# EAGLE library part B8B-ZR (library jst)
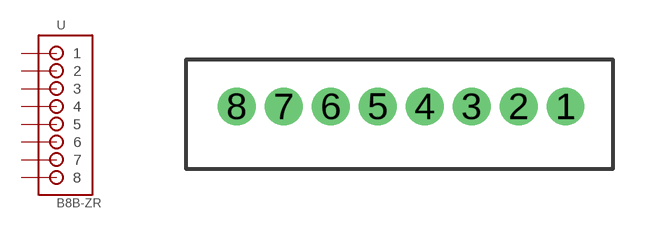
[diagram p2: symbol with the pads of B8B-ZR; footprint B8B-ZR]

Designator prefix -

## B8B-ZR  [B8B-ZR]
1  1
2  2
3  3
4  4
5  5
6  6
7  7
8  8

## Footprint B8B-ZR (pad centres in mm)
drill 0.7: 1 5.25,0; 2 3.75,0; 3 2.25,0; 4 0.75,0; 5 -0.75,0; 6 -2.25,0; 7 -3.75,0; 8 -5.25,0